# EAGLE library part M08 (library blinkinlabs)
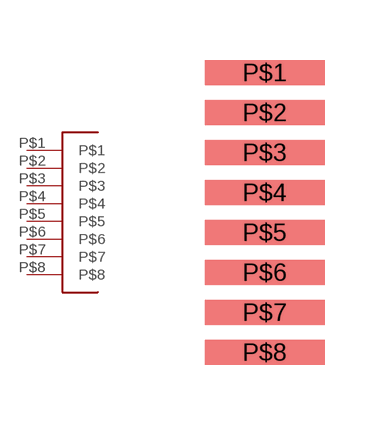
[diagram p8: symbol with the pads of 1X08_1MM_SMT; footprint 1X08_1MM_SMT]

Designator prefix -

## M08  [1X08_1MM_SMT]
P$1  P$1
P$2  P$2
P$3  P$3
P$4  P$4
P$5  P$5
P$6  P$6
P$7  P$7
P$8  P$8

## Footprint 1X08_1MM_SMT (pad centres in mm)
smd 3 x 0.635: P$1 0,0; P$2 0,-1; P$3 0,-2; P$4 0,-3; P$5 0,-4; P$6 0,-5; P$7 0,-6; P$8 0,-7